# Altium footprint library CN LCD TFT 128X160 1.8in.PcbLib: 1 footprints
Each footprint in its own frame and in the unit in brackets; x right, y up, seen from the top. Pads: shape width x height; smd on the part's side, far side on the other; paste and mask are expansions set on the pad; w line width, h text height; cw(c..) or ccw(c..) is an arc to the next point about the centre after c.
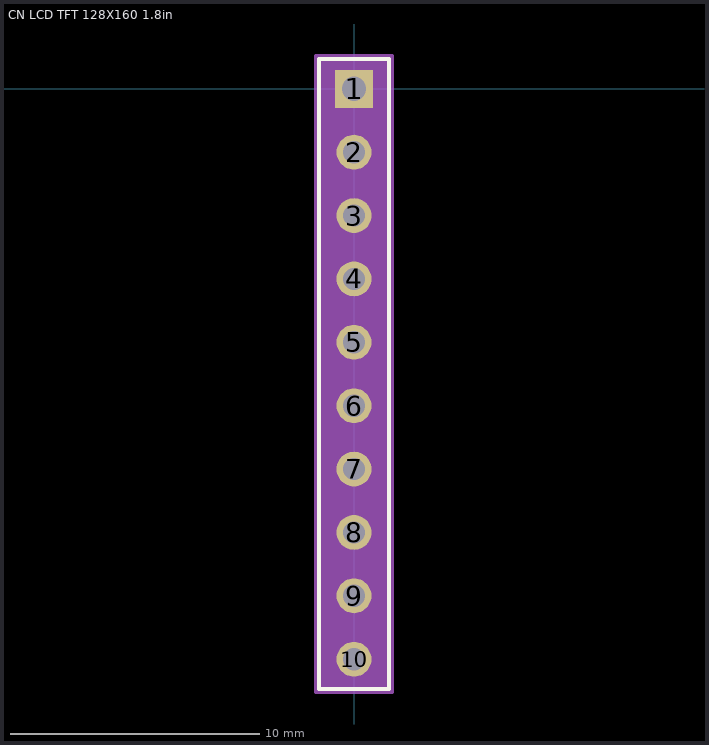
[diagram p0: the footprint, top view; thin cyan lines are the x and y axes]

## CN LCD TFT 128X160 1.8in [mil]
pads (10):
  rect 60x60 hole 38 mask+0: 1(0,0)
  round 55 hole 35 mask+0: 2(0,-100) 3(0,-200) 4(0,-300) 5(0,-400) 6(0,-500) 7(0,-600) 8(0,-700) 9(0,-800) 10(0,-900)
Top Overlay:
  lines w6: -55,-947 -55,47 55,47 55,-947 -55,-947
Mechanical 5:
  region: 57.5,49.5 57.5,-949.5 -57.5,-949.5 -57.5,49.5
Mechanical 13:
  lines w1: -50,-942 50,-942 50,42 -50,42 -50,-942
Mechanical 15:
  region: -60,52 -60,-952 60,-952 60,52
  lines w6: -60,-952 -60,52 60,52 60,-952 -60,-952
3D body "1-87224-0_TYC.step": height 90, standoff -200, extent -50,-955 50,45